# Altium footprint library SG__PCB_DO.PcbLib: 4 footprints
Each footprint in its own frame and in the unit in brackets; x right, y up, seen from the top. Pads: shape width x height; smd on the part's side, far side on the other; paste and mask are expansions set on the pad; w line width, h text height; cw(c..) or ccw(c..) is an arc to the next point about the centre after c.
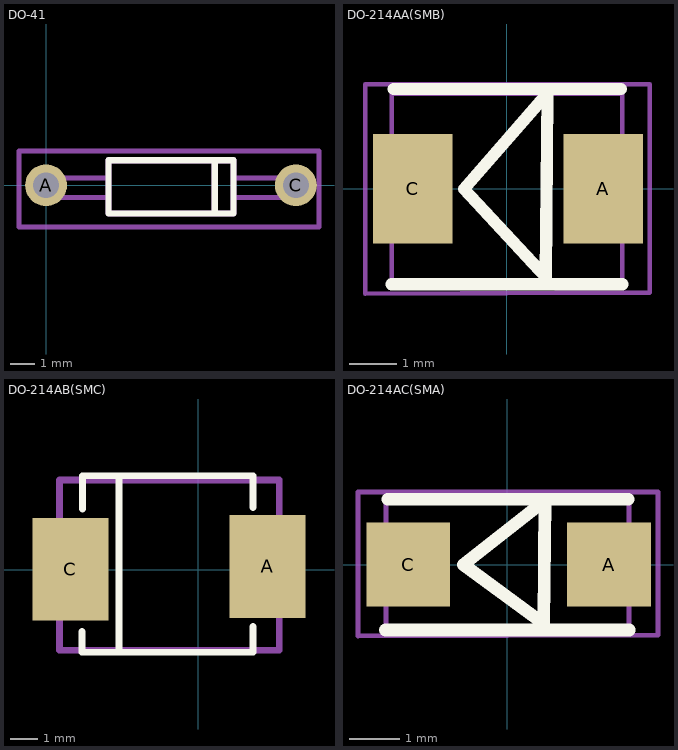
[diagram p0: the footprints below, top view; thin cyan lines are the x and y axes]

## DO-41 [mm]
pads (2):
  round 1.7 hole 1.05: A(0,0) C(10.16,0)
Top Overlay:
  lines w0.254: 6.858,-1.143 6.858,1.016 ; 2.54,-1.143 2.54,1.016 7.62,1.016 7.62,-1.143 2.54,-1.143
Assembly Top:
  lines w0.2: 2.54,-0.5 0,-0.5 0,0.3 2.54,0.3 ; 7.62,-0.5 10.2,-0.5 10.2,0.3 7.62,0.3
  lines w0.254: 6.858,-1.143 6.858,1.016 ; 2.54,-1.143 2.54,1.016 7.62,1.016 7.62,-1.143 2.54,-1.143
Courtyard Top:
  lines w0.2: -1.1,-1.7 -1.1,1.4 -0.9,1.4 11.1,1.4 11.1,-1.7 -1.1,-1.7
3D body "diode3.stp": height 3, standoff 0, extent -0.5,-1.627 10.66,1.361

## DO-214AA(SMB) [mm]
height 2.4
pads (2):
  rect 1.67x2.3 smd: A(2.025,0) C(-1.975,0)
Top Overlay:
  lines w0.254: -2.425,-2 2.425,-2 ; -2.375,2.1 2.4,2.1 ; -0.9,0 0.858,2.016 0.818,-1.854 -0.9,0
Assembly Top:
  lines w0.1: -2.417,-2 2.425,-2 2.425,2 -2.417,2 -2.417,-2
Courtyard Top:
  lines w0.1: -2.975,-2.201 -2.975,2.2 3,2.2 3,-2.176 -2.975,-2.201
3D body "DO-214AA(SMB).step": height 2.7, standoff 0.05, extent -2.794,-1.975 2.794,1.975

## DO-214AB(SMC) [mm]
height 2.4
pads (2):
  rect 2.8x3.8 smd: A(2.565,0.125) C(-4.724,0.024)
Top Overlay:
  lines w0.254: -4.293,-2.275 -4.293,-3.048 2.032,-3.048 2.032,-2.1 ; -4.275,2.25 -4.275,3.48 2.032,3.48 2.032,2.3 ; -2.928,3.454 -2.924,-2.921
Assembly Top:
  lines w0.254: -5.131,-2.972 -5.131,3.327 2.997,3.327 2.997,-2.972 -5.131,-2.972
3D body "User Library-DO-214AB(SMC).step": height 2.77, standoff 0.13, extent -5.131,-2.972 2.997,3.328

## DO-214AC(SMA) [mm]
height 2.4
pads (2):
  rect 1.67x1.67 smd: A(2.025,0) C(-1.975,0)
Top Overlay:
  lines w0.254: -2.425,-1.3 2.425,-1.3 ; -2.375,1.3 2.4,1.3 ; -0.875,0 0.725,-1.175 0.75,1.275 -0.875,0
Assembly Top:
  lines w0.1: -2.417,-1.271 -2.417,1.275 2.425,1.275 2.425,-1.271 -2.417,-1.271
Courtyard Top:
  lines w0.1: -2.975,-1.425 3,-1.4 3,1.45 -2.975,1.45 -2.975,-1.425
3D body "DO-214AC SMA.step": height 2.4, standoff 0, extent -2.6,-1.3 2.6,1.3